# Altium footprint library КП303.PcbLib: 1 footprints
Each footprint in its own frame and in the unit in brackets; x right, y up, seen from the top. Pads: shape width x height; smd on the part's side, far side on the other; paste and mask are expansions set on the pad; w line width, h text height; cw(c..) or ccw(c..) is an arc to the next point about the centre after c.
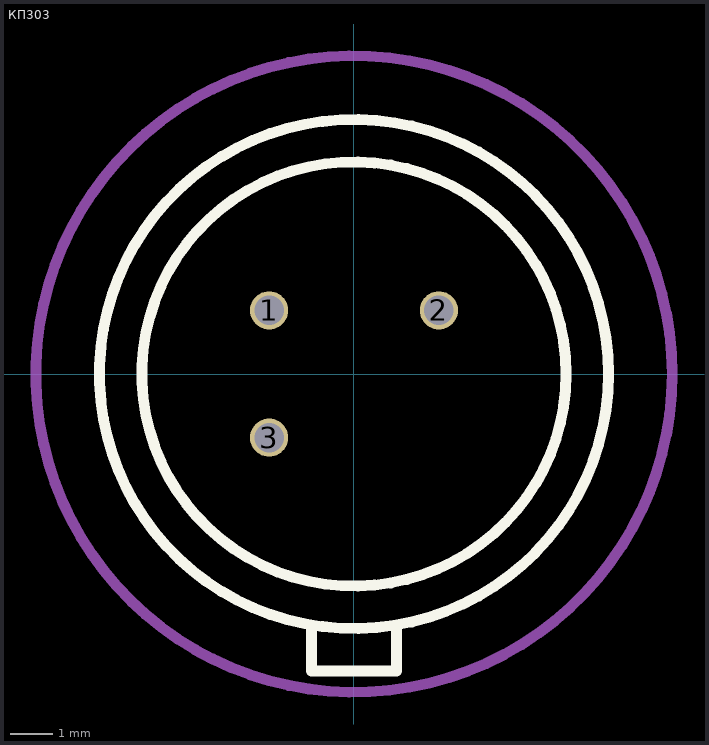
[diagram p0: the footprint, top view; thin cyan lines are the x and y axes]

## КП303 [mm]
pads (3):
  round 0.9 hole 0.7: 1(-2,1.5) 2(2,1.5) 3(-2,-1.5)
Top Overlay:
  circle w0.254: c0,0 r6
  circle w0.254: c0,0 r5
  lines w0.254: -1,-6 -1,-7 1,-7 1,-6
Bottom Overlay:
  circle w0.254: c0,0 r2.5
Mechanical 1:
  circle w0.254: c0,0 r7.5